# EAGLE library part MULTICOMP-MC32594 (library connectors-usb-ca508fyp)
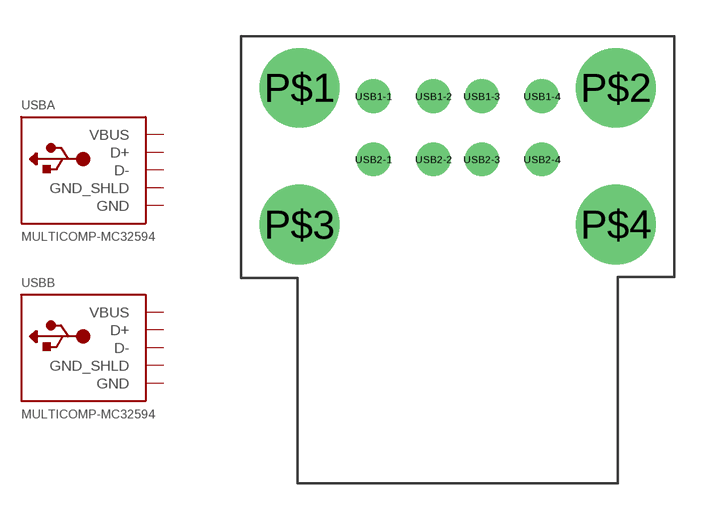
[diagram p0: symbol with the pads of MC32594; footprint MC32594]

Designator prefix USB; gates A=USB-STD B=USB-STD

## MULTICOMP-MC32594  [MC32594]
P$1  A:GND_SHLD  pwr
P$2  A:GND_SHLD  pwr
P$3  B:GND_SHLD  pwr
P$4  B:GND_SHLD  pwr
USB1-1  A:VBUS  pwr
USB1-2  A:D-
USB1-3  A:D+
USB1-4  A:GND  pwr
USB2-1  B:VBUS  pwr
USB2-2  B:D-
USB2-3  B:D+
USB2-4  B:GND  pwr

## Footprint MC32594 (pad centres in mm)
http://onecall.farnell.com/multicomp/mc32594/usb-type-a-receptacle-r-a/dp/1696535
drill 2.3: P$1 -6.57,0.35; P$2 6.57,0.35; P$3 -6.57,-5.33; P$4 6.57,-5.33
drill 0.9: USB1-1 -3.5,0; USB1-2 -1,0; USB1-3 1,0; USB1-4 3.5,0; USB2-1 -3.5,-2.62; USB2-2 -1,-2.62; USB2-3 1,-2.62; USB2-4 3.5,-2.62